# EAGLE library part OV2640-A (library PonLib)
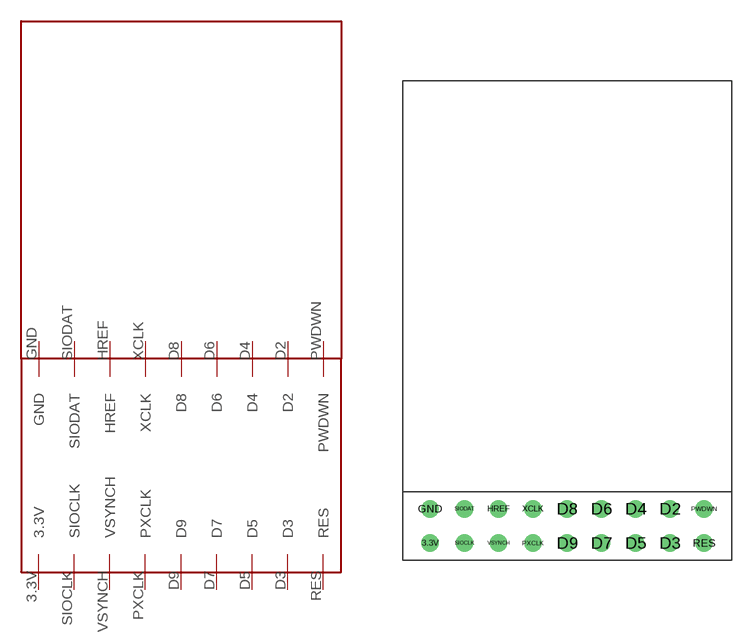
[diagram p35: symbol with the pads of OV2640-A; footprint OV2640-A]

Designator prefix -

## OV2640-A  [OV2640-A]
3.3V  3.3V
D2  D2
D3  D3
D4  D4
D5  D5
D6  D6
D7  D7
D8  D8
D9  D9
GND  GND
HREF  HREF
PWDWN  PWDWN
PXCLK  PXCLK
RES  RES
SIOCLK  SIOCLK
SIODAT  SIODAT
VSYNCH  VSYNCH
XCLK  XCLK

## Footprint OV2640-A (pad centres in mm)
drill 0.8: 3.3V -10.16,-1.27; D2 7.62,1.27; D3 7.62,-1.27; D4 5.08,1.27; D5 5.08,-1.27; D6 2.54,1.27; D7 2.54,-1.27; D8 0,1.27; D9 0,-1.27; GND -10.16,1.27; HREF -5.08,1.27; PWDWN 10.16,1.27; PXCLK -2.54,-1.27; RES 10.16,-1.27; SIOCLK -7.62,-1.27; SIODAT -7.62,1.27; VSYNCH -5.08,-1.27; XCLK -2.54,1.27